# EAGLE library part AD9283 (library CARA)
Analog Devices 8 bit ADC with Single/Differential input and 50/80/100 Msps.
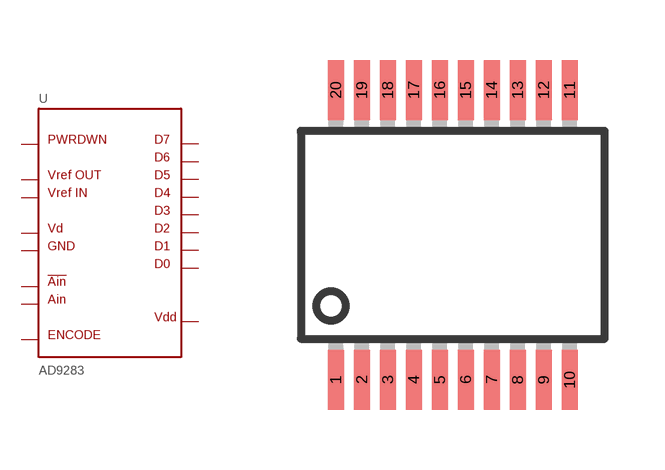
[diagram p10: symbol with the pads of SSOP20; footprint SSOP20]

Designator prefix U

## AD9283  [SSOP20]
1  PWRDWN  in
2  VREFOUT  pwr
3  VREFIN  pwr
4  GND  pwr
5  VD  pwr
6  !AIN  in
7  AIN  in
8  VD  pwr
9  GND  pwr
10  ENCODE  in
11  D7  out
12  D6  out
13  D5  out
14  D4  out
15  VDD  pwr
16  GND  pwr
17  D3  out
18  D2  out
19  D1  out
20  D0  out

## Footprint SSOP20 (pad centres in mm)
Shrink Small Outline Package package type SS
smd 0.4 x 1.5: 1 -2.925,-3.625; 2 -2.275,-3.625; 3 -1.625,-3.625; 4 -0.975,-3.625; 5 -0.325,-3.625; 6 0.325,-3.625; 7 0.975,-3.625; 8 1.625,-3.625; 9 2.275,-3.625; 10 2.925,-3.625; 11 2.925,3.625; 12 2.275,3.625; 13 1.625,3.625; 14 0.975,3.625; 15 0.325,3.625; 16 -0.325,3.625; 17 -0.975,3.625; 18 -1.625,3.625; 19 -2.275,3.625; 20 -2.925,3.625